# Altium footprint library Footprint_Thru-Hole_Headers.PcbLib: 20 footprints (part 2 of 2)
Each footprint in its own frame and in the unit in brackets; x right, y up, seen from the top. Pads: shape width x height; smd on the part's side, far side on the other; paste and mask are expansions set on the pad; w line width, h text height; cw(c..) or ccw(c..) is an arc to the next point about the centre after c.
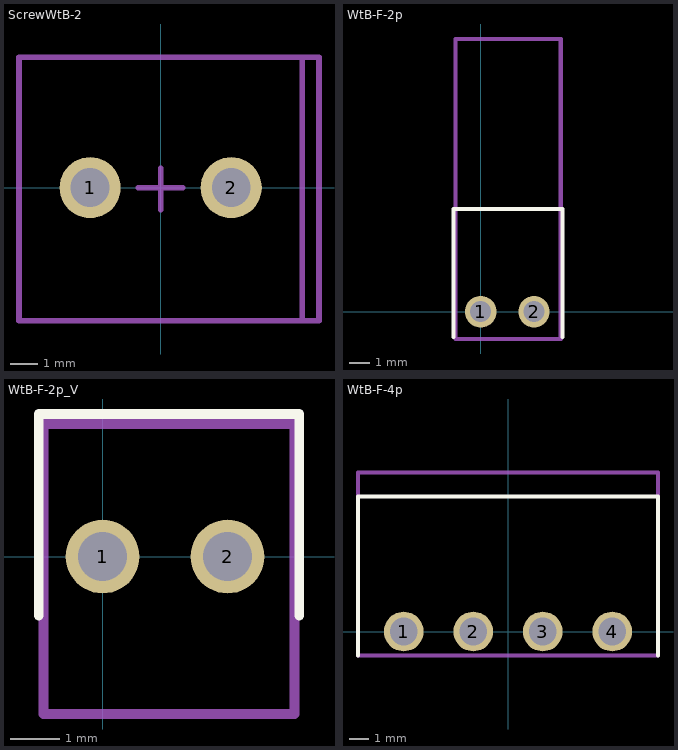
[diagram p1: the footprints below, top view; thin cyan lines are the x and y axes]

## ScrewWtB-2 [mm]
pads (2):
  round 2.2 hole 1.4: 1(-2.54,0) 2(2.54,0)
Mechanical 13:
  lines w0.2: -5.1,-4.8 -5.1,4.7 5.7,4.7 5.7,-4.8 -5.1,-4.8
Mechanical 15:
  lines w0.2: -0.8,0 0.8,0 ; 0,-0.8 0,0.7 ; -5.1,-4.8 -5.1,4.7 5.1,4.7 5.1,-4.8 -5.1,-4.8
3D body "1888687.stp": height 15, standoff -3.5, extent -5.065,-4.8 5.665,4.7

## WtB-F-2p [mm]
pads (2):
  round 1.5 hole 1: 1(0,0) 2(2.54,0)
Top Overlay:
  lines w0.2: -1.3,-1.2 -1.3,4.9 3.9,4.9 3.9,-1.2
Mechanical 13:
  lines w0.2: -1.2,-1.3 3.82,-1.3 3.82,13 -1.2,13 -1.2,-1.3
Mechanical 15:
  lines w0.2: -1.2,-1.3 3.8,-1.3 3.8,13 -1.2,13 -1.2,-1.3
3D body "User Library-Wurth 619 002 111 21.STEP": height 6.02, standoff 0.22, extent -1.159,-1.383 3.921,13.05

## WtB-F-2p_V [mm]
pads (2):
  round 1.5 hole 1: 1(0,0) 2(2.54,0)
Top Overlay:
  lines w0.2: -1.3,-1.2 -1.3,2.9 4,2.9 4,-1.2
Mechanical 13:
  lines w0.2: -1.2,-3.2 -1.2,2.7 3.9,2.7 3.9,-3.2 -1.2,-3.2
Mechanical 15:
  lines w0.2: -1.2,-3.2 -1.2,2.7 3.9,2.7 3.9,-3.2 -1.2,-3.2
3D body "User Library-Wurth 619 002 111 21.STEP": height 11.45, standoff -2.98, extent -1.18,-3.2 3.9,2.6

## WtB-F-4p [mm]
pads (4):
  round 2 hole 1.4: 1(-5.25,0) 2(-1.75,0) 3(1.75,0) 4(5.25,0)
Top Overlay:
  lines w0.2: -7.55,-1.2 -7.55,6.8 7.55,6.8 7.55,-1.2
Mechanical 13:
  lines w0.2: -7.55,-1.2 7.55,-1.2 7.55,8 -7.55,8 -7.55,-1.2
Mechanical 15:
  lines w0.2: -7.55,-1.2 7.55,-1.2 7.55,8 -7.55,8 -7.55,-1.2